# EAGLE library part 10POS-HEADER_HRS_BM10B(0.6)-10DP-0.4V(51) (library SMORSE_Chao)
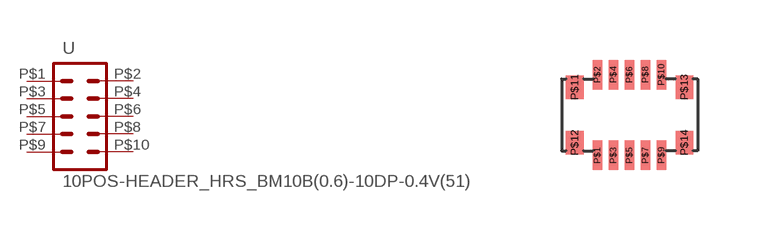
[diagram p9: symbol with the pads of 10POS-HEADER_HRS_BM10B(0.6)-10DP-0.4V(51); footprint 10POS-HEADER_HRS_BM10B(0.6)-10DP-0.4V(51)]

Designator prefix -

## 10POS-HEADER_HRS_BM10B(0.6)-10DP-0.4V(51)  [10POS-HEADER_HRS_BM10B(0.6)-10DP-0.4V(51)]
P$1  1  pas
P$2  2  pas
P$3  3  pas
P$4  4  pas
P$5  5  pas
P$6  6  pas
P$7  7  pas
P$8  8  pas
P$9  9  pas
P$10  10  pas

## Footprint 10POS-HEADER_HRS_BM10B(0.6)-10DP-0.4V(51) (pad centres in mm)
smd 0.23 x 0.74: P$1 -0.8,-1.01; P$2 -0.8,1.01; P$3 -0.4,-1.01; P$4 -0.4,1.01; P$5 0,-1.01; P$6 0,1.01; P$7 0.4,-1.01; P$8 0.4,1.01; P$9 0.8,-1.01; P$10 0.8,1.01
smd 0.44 x 0.59: P$11 -1.37,0.695; P$12 -1.37,-0.695; P$13 1.37,0.695; P$14 1.37,-0.695